# EAGLE library part RPI5 (library RaspberryPI)
Raspberry Pi Eagle Library Raspberry Pi Eagle Library This library provides GPIO header layouts and board outlines specifically designed for the Raspberry Pi 5. It is also compatible with the Raspberry Pi 4 and Raspberry Pi 3 models. Compatibility Designed for Raspberry Pi 5 Fully compatible with Raspberry Pi 4 and 3 models Uses standard 0.1 inch (2.54 mm) grid for seamless integration with common PCB components Applications Perfect for designing HATs, add-on boards, and prototyping projects for the Raspberry Pi platform. About the Author Created by Mert Batuhan Şahin. You can find more of my projects and contributions on GitHub <https://github.com/Batushn>. Notes This library ensures accurate GPIO header placements and general compatibility across different Raspberry Pi models, making it an essential tool for engineers and makers.
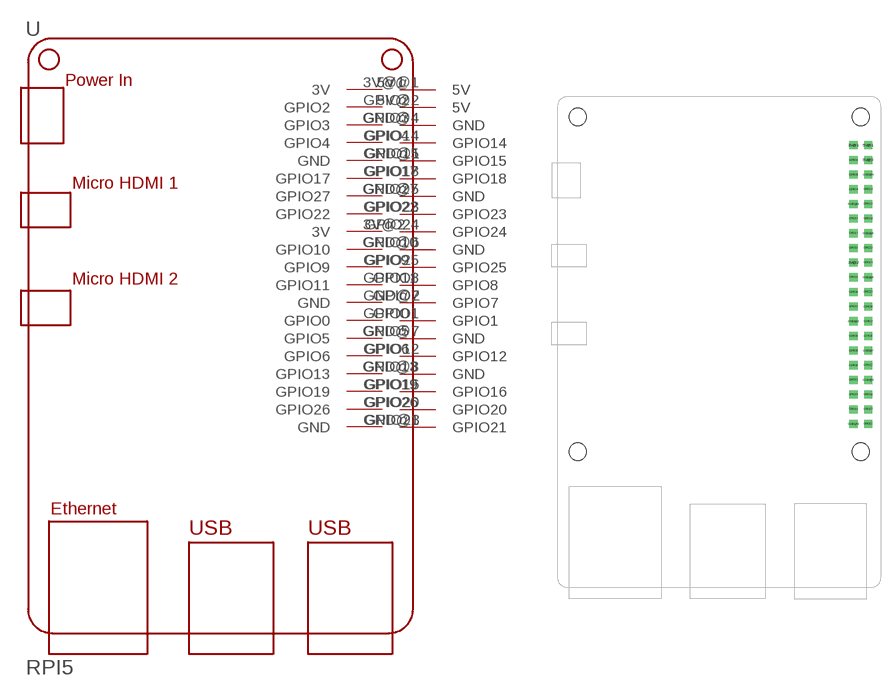
[diagram p0: symbol with the pads of RPI5; footprint RPI5]

Designator prefix U

## RPI5  [RPI5]
3V@1  3V
3V@2  3V
5V@1  5V
5V@2  5V
GND@1  GND
GND@2  GND
GND@3  GND
GND@4  GND
GND@5  GND
GND@6  GND
GND@7  GND
GND@8  GND
GPIO0  GPIO0
GPIO1  GPIO1
GPIO2  GPIO2
GPIO3  GPIO3
GPIO4  GPIO4
GPIO5  GPIO5
GPIO6  GPIO6
GPIO7  GPIO7
GPIO8  GPIO8
GPIO9  GPIO9
GPIO10  GPIO10
GPIO11  GPIO11
GPIO12  GPIO12
GPIO13  GPIO13
GPIO14  GPIO14
GPIO15  GPIO15
GPIO16  GPIO16
GPIO17  GPIO17
GPIO18  GPIO18
GPIO19  GPIO19
GPIO20  GPIO20
GPIO21  GPIO21
GPIO22  GPIO22
GPIO23  GPIO23
GPIO24  GPIO24
GPIO25  GPIO25
GPIO26  GPIO26
GPIO27  GPIO27

## Footprint RPI5 (pad centres in mm)
Raspberry Pi Eagle Library Raspberry Pi Eagle Library This library provides GPIO header layouts and board outlines specifically designed for the Raspberry Pi 5. It is also compatible with the Raspberry Pi 4 and Raspberry Pi 3 models. Compatibility Designed for Raspberry Pi 5 Fully compatible with Raspberry Pi 4 and 3 models Uses standard 0.1 inch (2.54 mm) grid for seamless integration with common PCB components Applications Perfect for designing HATs, add-on boards, and prototyping projects for the Raspberry Pi platform. About the Author Created by Mert Batuhan Şahin. You can find more of my projects and contributions on GitHub <https://github.com/Batushn>. Notes This library ensures accurate GPIO header placements and general compatibility across different Raspberry Pi models, making it an essential tool for engineers and makers.
drill 0.9 square: 3V@1 -0.27,0.064; 3V@2 -0.27,-20.256; 5V@1 2.27,0.064; 5V@2 2.27,-2.477; GND@1 -0.27,-10.097; GND@2 -0.27,-30.416; GND@3 -0.27,-48.197; GND@4 2.27,-5.016; GND@5 2.27,-15.177; GND@6 2.27,-22.797; GND@7 2.27,-35.496; GND@8 2.27,-40.577; GPIO0 -0.27,-32.956; GPIO1 2.27,-32.956; GPIO2 -0.27,-2.477; GPIO3 -0.27,-5.016; GPIO4 -0.27,-7.556; GPIO5 -0.27,-35.496; GPIO6 -0.27,-38.036; GPIO7 2.27,-30.416; GPIO8 2.27,-27.877; GPIO9 -0.27,-25.337; GPIO10 -0.27,-22.797; GPIO11 -0.27,-27.877; GPIO12 2.27,-38.036; GPIO13 -0.27,-40.577; GPIO14 2.27,-7.556; GPIO15 2.27,-10.097; GPIO16 2.27,-43.117; GPIO17 -0.27,-12.636; GPIO18 2.27,-12.636; GPIO19 -0.27,-43.117; GPIO20 2.27,-45.657; GPIO21 2.27,-48.197; GPIO22 -0.27,-17.716; GPIO23 2.27,-17.716; GPIO24 2.27,-20.256; GPIO25 2.27,-25.337; GPIO26 -0.27,-45.657; GPIO27 -0.27,-15.177
hole 3 at 1,5
hole 3 at 1,-53
hole 3 at -48,5
hole 3 at -48,-53